# Altium footprint library connector2pin.PcbLib: 1 footprints
Each footprint in its own frame and in the unit in brackets; x right, y up, seen from the top. Pads: shape width x height; smd on the part's side, far side on the other; paste and mask are expansions set on the pad; w line width, h text height; cw(c..) or ccw(c..) is an arc to the next point about the centre after c.
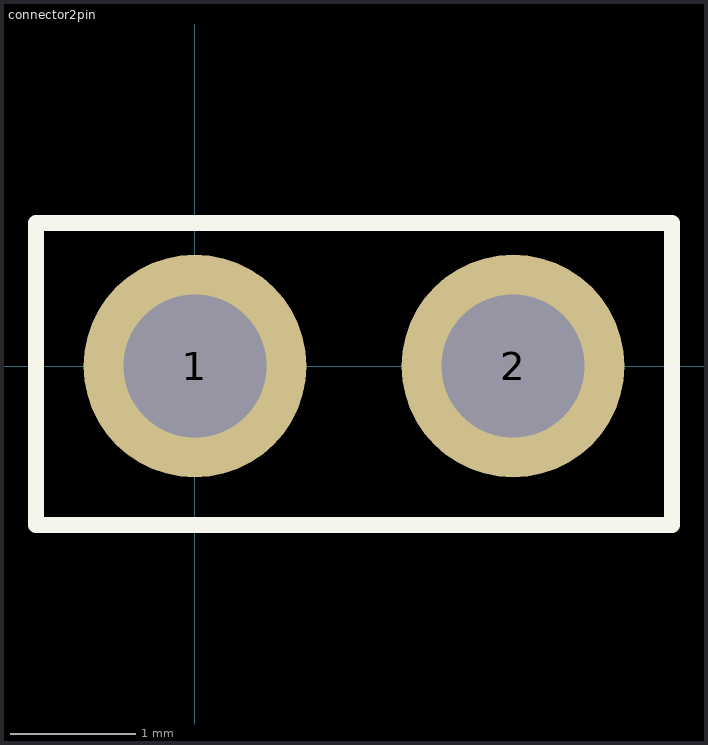
[diagram p0: the footprint, top view; thin cyan lines are the x and y axes]

## connector2pin [mil] "2 pim connector"
pads (2):
  round 70 hole 45: 1(0,0) 2(100,0)
Top Overlay:
  lines w5: -50,-50 -50,45 150,45 150,-50 -50,-50
3D body "Pin Header 1x2 TH Pitch 2.54mm.stp": height 373.85, standoff -125.98, extent -49.99,-49.99 150.01,50.01